# EAGLE library part IDT74FCT38072 (library circuit_tree)
IC
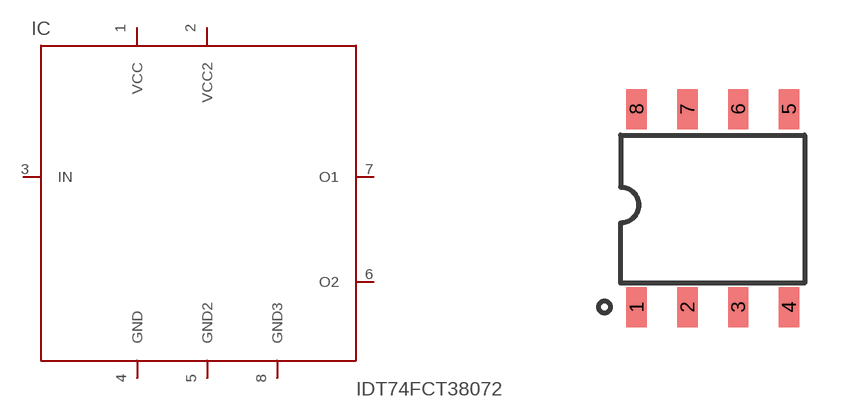
[diagram p3: symbol with the pads of IDT74FCT38072; footprint IDT74FCT38072]

Designator prefix IC

## IDT74FCT38072  [IDT74FCT38072]
1  VCC  pas
2  VCC2  pas
3  IN  pas
4  GND  pas
5  GND2  pas
6  O2  pas
7  O1  pas
8  GND3  pas

## Footprint IDT74FCT38072 (pad centres in mm)
smd 0.51 x 1: 1 0,0; 2 1.27,0; 3 2.54,0; 4 3.81,0; 5 3.81,4.95; 6 2.54,4.95; 7 1.27,4.95; 8 0,4.95